# Altium schematic symbol library RJULE4218201.SchLib: 1 symbol
Pins are listed as number, name and electrical type; pins without a type are passive.

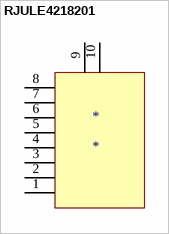
[diagram p0: symbol RJULE4218201]

## RJULE4218201
designator *
footprint RJULE4218201
pins: 1 11, 2 12, 3 13, 4 14, 5 15, 6 16, 7 17, 8 18, 9, 10